# Altium footprint library 封装库.PCBLIB: 282 footprints (part 18 of 18)
Each footprint in its own frame and in the unit in brackets; x right, y up, seen from the top. Pads: shape width x height; smd on the part's side, far side on the other; paste and mask are expansions set on the pad; w line width, h text height; cw(c..) or ccw(c..) is an arc to the next point about the centre after c.
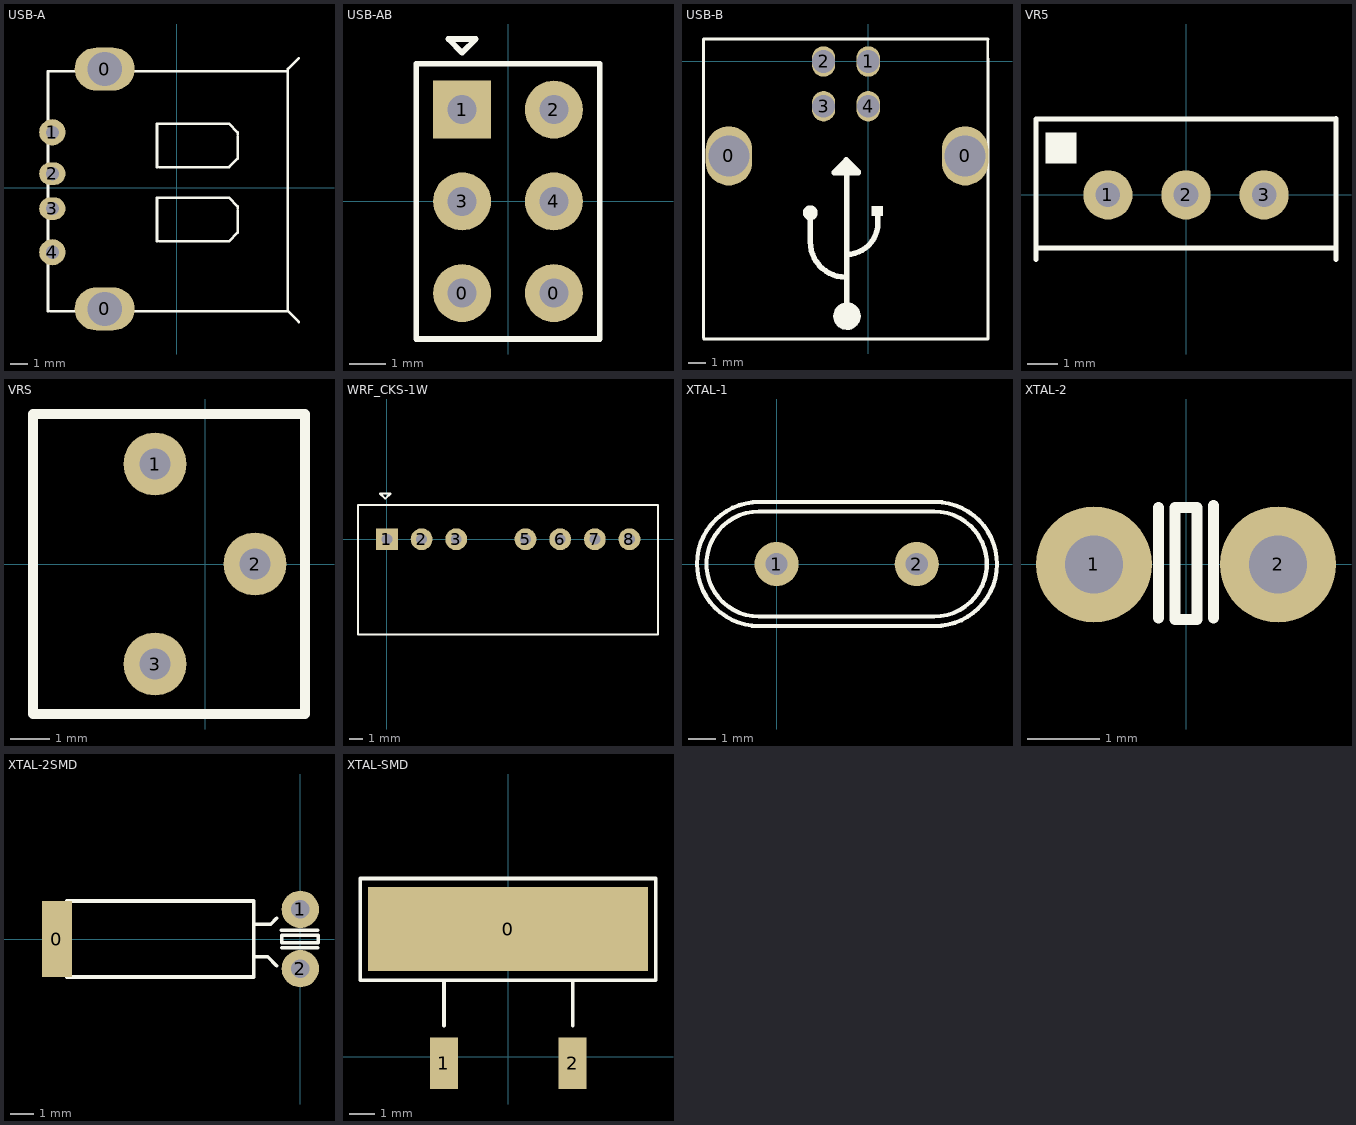
[diagram p17: the footprints below, top view; thin cyan lines are the x and y axes]

## USB-A [mm]
pads (6):
  oval 3.5x2.5 hole 2: 0(-4.207,-7.059) 0(-4.207,6.911)
  round 1.524 hole 0.762: 1(-7.255,3.228) 4(-7.255,-3.757)
  oval 1.524x1.324 hole 0.762: 2(-7.255,0.815) 3(-7.255,-1.217)
TopOverlay:
  lines w0.152: -7.509,-7.186 -7.509,6.784 6.461,6.784 ; -7.382,-7.186 6.461,-7.186 ; -1.159,-3.122 -1.159,-0.582 3.032,-0.582 3.54,-1.09 3.54,-1.217 ; -1.159,1.196 -1.159,3.736 3.032,3.736 3.54,3.228 3.54,3.101 ; -1.032,-3.122 3.032,-3.122 3.54,-2.614 3.54,-1.344 ; -1.032,1.196 3.032,1.196 3.54,1.704 3.54,2.974 ; 7.096,-7.821 6.461,-7.186 ; 7.096,7.546 6.461,6.911 6.461,6.784 ; 6.461,-7.186 6.461,6.784

## USB-AB [mm]
pads (6):
  round 1.6 hole 0.8: 0(-1.27,-2.54) 0(1.27,-2.54) 2(1.27,2.54) 3(-1.27,0) 4(1.27,0)
  rect 1.6x1.6 / inner round 1.6 / far side rect 1.6x1.6 hole 0.8: 1(-1.27,2.54)
TopOverlay:
  lines w0.152: -2.54,-3.454 -2.54,1.422 ; -2.54,-3.048 -2.54,-3.81 -0.686,-3.81 ; -2.54,0.965 -2.54,3.505 ; -2.54,3.2 -2.54,3.81 -1.626,3.81 ; -1.854,3.81 2.261,3.81 ; -1.118,-3.81 1.651,-3.81 ; 1.041,-3.81 2.54,-3.81 2.54,-2.718 ; 1.93,3.81 2.54,3.81 ; 2.54,-2.997 2.54,1.168 ; 2.54,-0.254 2.54,3.683 ; 2.54,2.769 2.54,3.81 ; 2.54,3.2 2.54,3.81 ; -1.651,4.496 -0.889,4.496 -1.27,4.115 -1.651,4.496

## USB-B [mm]
pads (6):
  oval 2.6x3.3 hole 2.3: 0(-7.789,-5.281) 0(5.411,-5.281)
  oval 1.3x1.7 hole 1.27: 1(0,0) 2(-2.5,0) 3(-2.5,-2.5) 4(0,-2.5)
TopOverlay:
  rectangle: 0.186,-8.631 0.836,-8.081
  rectangle: -3.339,-8.531 -3.139,-8.331
  rectangle: -1.514,-14.706 -0.814,-13.756
  lines w0.152: -9.206,-15.432 -9.206,1.256 6.669,1.256 6.669,-15.508 ; -9.189,0.169 -9.189,-15.506 6.686,-15.506 6.686,0.169 ; -9.114,1.236 6.686,1.236
  lines w0.305: -3.239,-8.581 -3.239,-10.081 ccw(c-1.264,-10.081) -1.264,-12.056 ; -3.025,-8.605 cw(c-3.239,-8.456) -2.989,-8.532 ; -1.914,-6.206 -0.564,-6.206 -0.814,-5.956 -1.639,-5.956 ; -1.889,-6.181 -1.214,-5.506 -1.214,-13.981 ; -1.614,-13.906 ccw(c-1.214,-14.156) -1.564,-13.84 ; -1.516,-13.707 ccw(c-1.189,-14.231) -1.469,-13.681 ; -1.239,-5.756 -1.239,-5.481 -0.564,-6.156 ; -1.214,-10.781 ccw(c-1.214,-9.031) 0.536,-9.031 0.536,-8.681 ; -1.09,-13.979 ccw(c-1.264,-14.106) -1.05,-14.079

## VR5 [mm]
pads (3):
  round 1.6 hole 0.8: 1(-2.54,0) 2(0,0) 3(2.54,0)
TopOverlay:
  rectangle: -4.572,1.016 -3.556,2.032
  lines w0.152: -4.877,-2.108 -4.877,2.464 4.851,2.464 4.877,2.489 4.877,2.134 4.877,0.051 4.877,-2.108 ; -4.877,-1.727 4.877,-1.727

## VRS [mm]
pads (3):
  round 1.6 hole 0.8: 1(-1.27,2.54) 2(1.27,0) 3(-1.27,-2.54)
TopOverlay:
  lines w0.254: -1.524,3.81 2.54,3.81 2.54,-0.051 2.54,-3.81 -1.168,-3.81 ; -1.067,3.81 -4.369,3.81 -4.369,3.378 -4.369,-3.581 -4.369,-3.81 -0.864,-3.81

## WRF_CKS-1W [mm] "WRF_CKS-1W,DC/DC"
pads (7):
  rect 1.6x1.6 hole 0.8: 1(0,0)
  round 1.6 hole 0.8: 2(2.54,0) 3(5.08,0) 5(10.16,0) 6(12.7,0) 7(15.24,0) 8(17.78,0)
TopOverlay:
  lines w0.152: -2.125,-6.985 -2.125,2.515 19.875,2.515 19.875,-6.985 -2.125,-6.985 ; -0.508,3.353 -0.127,2.972 0.254,3.353 -0.508,3.353

## XTAL-1 [mm]
pads (2):
  round 1.6 hole 0.8: 1(0,0) 2(5.08,0)
TopOverlay:
  lines w0.152: -0.635,-2.25 cw(c-0.635,0) -0.611,2.25 5.74,2.25 cw(c5.74,0) 5.717,-2.25 -0.635,-2.25 ; -0.635,-1.905 cw(c-0.635,0) -0.635,1.905 5.715,1.905 cw(c5.715,0) 5.715,-1.905 -0.635,-1.905

## XTAL-2 [mm] "32.768KHZ,38KHZ Craystal"
pads (2):
  round 1.6 hole 0.8: 1(-1.27,0) 2(1.27,0)
TopOverlay:
  lines w0.152: -0.381,-0.737 -0.381,0.787 ; -0.127,-0.762 0.152,-0.762 ; 0.381,-0.737 0.381,0.813 ; 0.152,-0.762 -0.152,-0.762 -0.152,0.787 0.152,0.787 0.152,-0.762

## XTAL-2SMD [mm] "32.768KHZ,38KHZ Craystal,SMD"
pads (3):
  rect 1.27x3.251 smd: 0(-10.414,0)
  round 1.6 hole 0.8: 1(0,1.27) 2(0,-1.27)
TopOverlay:
  lines w0.152: -2,-0.762 -1.397,-0.762 -1.016,-1.143 ; -2,0.635 -1.27,0.635 -1.016,0.889 ; -0.813,0.381 0.737,0.381 ; -0.787,-0.381 0.737,-0.381 ; 0.762,-0.127 0.762,0.152 ; 0.762,0.152 -0.787,0.152 -0.787,-0.152 0.762,-0.152 0.762,0.152 ; -10,-1.625 -10,0 -10,1.625 -2,1.625 -2,0 -2,-1.625 -10,-1.625

## XTAL-SMD [mm] "49S"
pads (3):
  rect 11x3.3 smd: 0(0,5.004)
  rect 1.1x2.03 smd: 1(-2.515,-0.254) 2(2.54,-0.254)
TopOverlay:
  lines w0.152: -2.515,1.219 -2.515,3 ; 2.54,1.219 2.54,2.997 ; -5.8,2.997 -5.8,6.997 5.8,6.997 5.8,2.997 0,2.997 -5.8,2.997